# EAGLE library part AD8611 (library untitled)
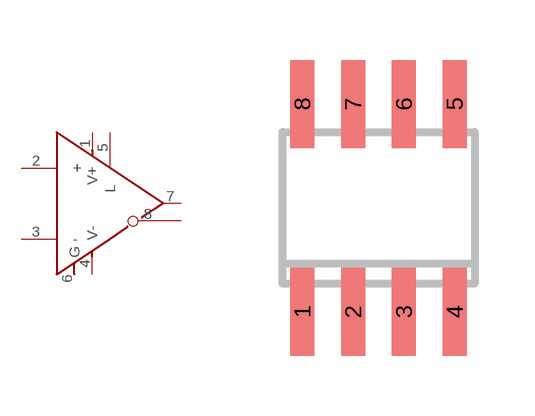
[diagram p0: symbol with the pads of SO-08; footprint SO-08]

Designator prefix IC

## AD8611AR  [SO-08]
1  V+  sup
2  +  in
3  -  in
4  V-  sup
5  L  in
6  G  sup
7  OUT  out
8  /OUT  out

## Footprint SO-08 (pad centres in mm)
Small Outline Narrow Plastic Gull Wing 150-mil body, package type SN
smd 0.6 x 2.2: 1 -1.905,-2.6; 2 -0.635,-2.6; 3 0.635,-2.6; 4 1.905,-2.6; 5 1.905,2.6; 6 0.635,2.6; 7 -0.635,2.6; 8 -1.905,2.6